# EAGLE library part 613012216921 (library Wuerth_Elektronik_eiCan_Pin_&_Socked_Headers_v1.3)
WR-PHD 2.54mm Dual S. Header Bottom Entry Large, 12 Pins
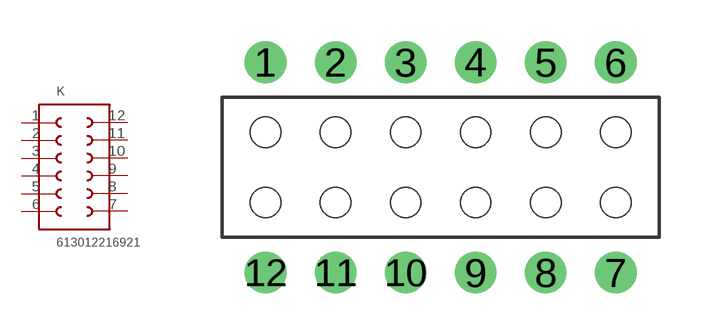
[diagram p206: symbol with the pads of 613012216921; footprint 613012216921]

Designator prefix K

## 613012216921  [613012216921]
1  1  pas
2  2  pas
3  3  pas
4  4  pas
5  5  pas
6  6  pas
7  7  pas
8  8  pas
9  9  pas
10  10  pas
11  11  pas
12  12  pas

## Footprint 613012216921 (pad centres in mm)
WR-PHD 2.54mm Dual S. Header Bottom Entry Large, 12 Pins
drill 1 round: 1 -6.35,3.81; 2 -3.81,3.81; 3 -1.27,3.81; 4 1.27,3.81; 5 3.81,3.81; 6 6.35,3.81; 7 6.35,-3.81; 8 3.81,-3.81; 9 1.27,-3.81; 10 -1.27,-3.81; 11 -3.81,-3.81; 12 -6.35,-3.81
hole 1.1 at -6.35,1.27
hole 1.1 at -3.81,1.27
hole 1.1 at -1.27,1.27
hole 1.1 at 1.27,1.27
hole 1.1 at 3.81,1.27
hole 1.1 at 6.35,1.27
hole 1.1 at 6.35,-1.27
hole 1.1 at 3.81,-1.27
hole 1.1 at 1.27,-1.27
hole 1.1 at -1.27,-1.27
hole 1.1 at -3.81,-1.27
hole 1.1 at -6.35,-1.27